# EAGLE library part MA08-1 (library CON-pinHeader-AON)
Lita 8x1 Female 609-3589-ND (Digi-key) Male Jakýkoliv obyèejný 2,54mm konektor Hoøa 13.11.2016
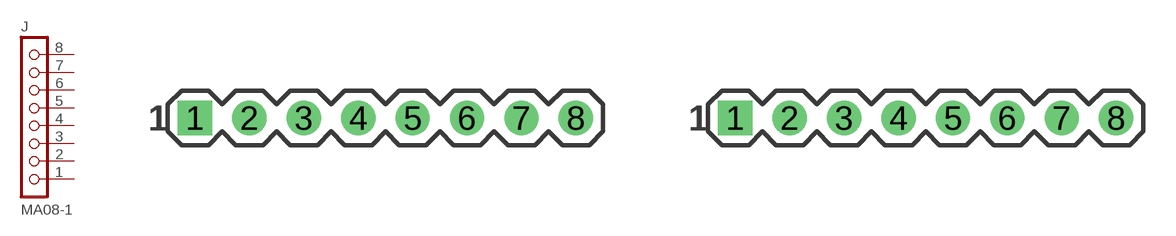
[diagram p3: symbol with the pads of MA08-1-FEMALE; footprints MA08-1-FEMALE, MA08-1-MALE]

Designator prefix J

## MA08-1-F  [MA08-1-FEMALE]
1  1  pas
2  2  pas
3  3  pas
4  4  pas
5  5  pas
6  6  pas
7  7  pas
8  8  pas

## MA08-1-M  [MA08-1-MALE]
Pads as for MA08-1-FEMALE

## Footprint MA08-1-FEMALE (pad centres in mm)
Konektor 8X1 609-3589-ND (Digi-key) Pinnový kolektor 8x1, rozteè 2,54mm, pevná konstrukce Odkaz Digi-Key <http://www.digikey.com/product-detail/en/amphenol-fci/68685-308LF/609-3589-ND/1525144> Hoøa 13.11.2016
drill 1 pad 1.6 square: 1 -8.89,0
drill 1 pad 1.6: 2 -6.35,0; 3 -3.81,0; 4 -1.27,0; 5 1.27,0; 6 3.81,0; 7 6.35,0; 8 8.89,0

## Footprint MA08-1-MALE (pad centres in mm)
Lita 8x1 MALE Pin lita 2.54mm rozteè, nemá odkaz Hoøa 13.11.2016
drill 1 pad 1.6 square: 1 -8.89,0
drill 1 pad 1.6: 2 -6.35,0; 3 -3.81,0; 4 -1.27,0; 5 1.27,0; 6 3.81,0; 7 6.35,0; 8 8.89,0